# Altium footprint library LEDs.PcbLib: 54 footprints (part 2 of 4)
Each footprint in its own frame and in the unit in brackets; x right, y up, seen from the top. Pads: shape width x height; smd on the part's side, far side on the other; paste and mask are expansions set on the pad; w line width, h text height; cw(c..) or ccw(c..) is an arc to the next point about the centre after c.
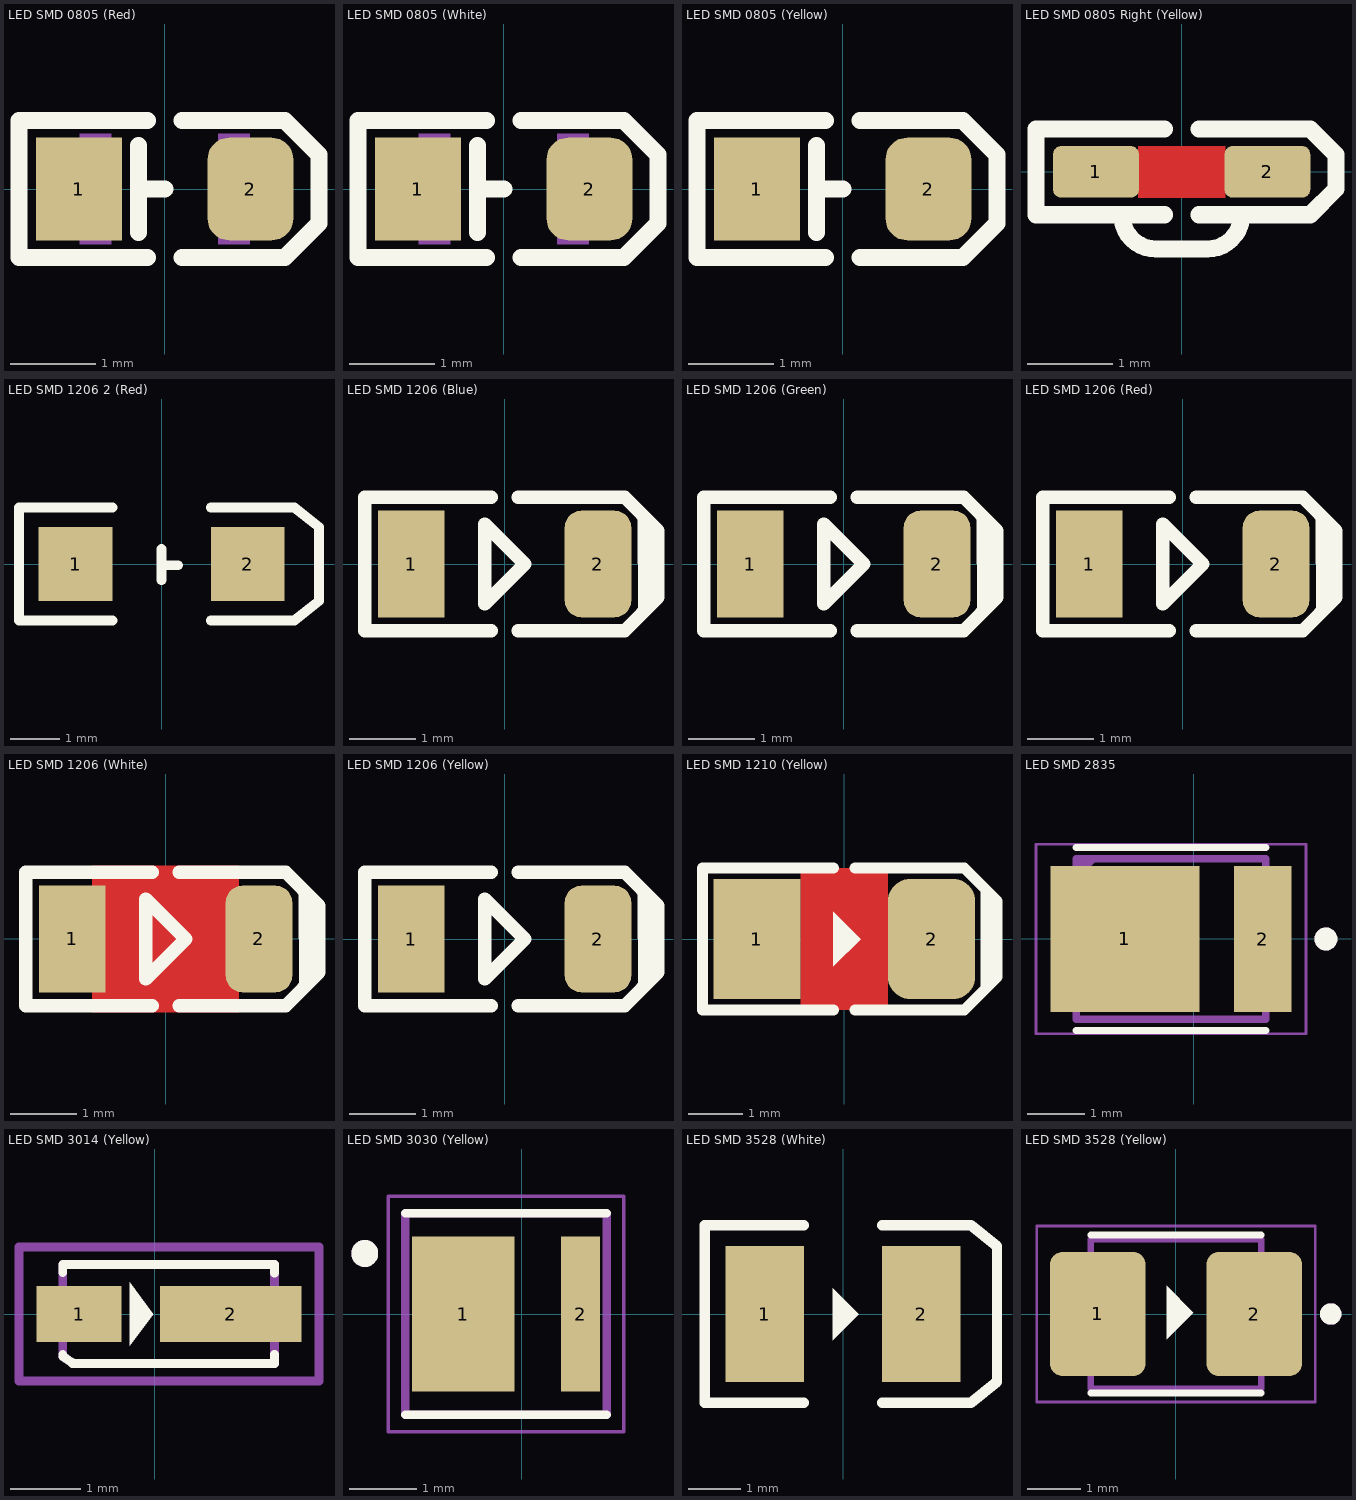
[diagram p1: the footprints below, top view; thin cyan lines are the x and y axes]

## LED SMD 0805 (Red) [mm]
pads (2):
  rect 1x1.2 smd mask+0.075: 1(-1,0)
  rrect50% 1x1.2 smd mask+0.075: 2(1,0)
Top Overlay:
  lines w0.2: -0.305,-0.508 -0.305,0.508 ; -0.305,0 0,0 ; -0.2,-0.8 -1.7,-0.8 -1.7,0.8 -0.2,0.8 ; 0.2,-0.8 1.4,-0.8 1.8,-0.4 1.8,0.4 1.4,0.8 0.2,0.8
Mechanical 13:
  rectangle: -0.848,-0.65 -0.619,0.65
  rectangle: -0.995,0.19 -0.842,0.65
  rectangle: -0.995,-0.65 -0.842,-0.191
  region: 0.848,0.65 0.619,0.65 0.619,-0.65 0.848,-0.65
  region: 0.995,0.65 0.842,0.65 0.842,0.191 0.995,0.191
  region: 0.995,-0.19 0.842,-0.19 0.842,-0.65 0.995,-0.65
  lines w0.102: -1,-0.191 ccw(c-1,0) -1,0.191 ; 1,-0.191 cw(c1,0) 1,0.191
3D body "User Library-Wurth Elektronik WL-SMCW 0805 (2012) LED Base (Separate Lens).step": height 0.64, standoff 0, extent -1,-0.625 1,0.625
3D body "User Library-Wurth Elektronik WL-SMCW 0805 (2012) LED Lens (Separate Body).step": height 0.7, standoff 0.3, extent -0.7,-0.625 0.7,0.625

## LED SMD 0805 (White) [mm]
pads (2):
  rect 1x1.2 smd mask+0.075: 1(-1,0)
  rrect50% 1x1.2 smd mask+0.075: 2(1,0)
Top Overlay:
  lines w0.2: -0.305,-0.508 -0.305,0.508 ; -0.305,0 0,0 ; -0.2,-0.8 -1.7,-0.8 -1.7,0.8 -0.2,0.8 ; 0.2,-0.8 1.4,-0.8 1.8,-0.4 1.8,0.4 1.4,0.8 0.2,0.8
Mechanical 13:
  region: 0.995,-0.19 0.842,-0.19 0.842,-0.65 0.995,-0.65
  region: 0.995,0.65 0.842,0.65 0.842,0.191 0.995,0.191
  region: 0.848,0.65 0.619,0.65 0.619,-0.65 0.848,-0.65
  rectangle: -0.995,-0.65 -0.842,-0.191
  rectangle: -0.995,0.19 -0.842,0.65
  rectangle: -0.848,-0.65 -0.619,0.65
  lines w0.102: -1,-0.191 ccw(c-1,0) -1,0.191 ; 1,-0.191 cw(c1,0) 1,0.191
3D body "User Library-Wurth Elektronik WL-SMCW 0805 (2012) LED Lens (Separate Body).step": height 0.7, standoff 0.3, extent -0.7,-0.625 0.7,0.625
3D body "User Library-Wurth Elektronik WL-SMCW 0805 (2012) LED Base (Separate Lens).step": height 0.64, standoff 0, extent -1,-0.625 1,0.625

## LED SMD 0805 (Yellow) [mm]
pads (2):
  rect 1x1.2 smd mask+0.075: 1(-1,0)
  rrect50% 1x1.2 smd mask+0.075: 2(1,0)
Top Overlay:
  lines w0.2: -0.305,-0.508 -0.305,0.508 ; -0.305,0 0,0 ; -0.2,-0.8 -1.7,-0.8 -1.7,0.8 -0.2,0.8 ; 0.2,-0.8 1.4,-0.8 1.8,-0.4 1.8,0.4 1.4,0.8 0.2,0.8
3D body "User Library-Wurth Elektronik WL-SMCW 0805 (2012) LED Base (Separate Lens).step": height 0.64, standoff 0, extent -1,-0.625 1,0.625
3D body "User Library-Wurth Elektronik WL-SMCW 0805 (2012) LED Lens (Separate Body).step": height 0.7, standoff 0.3, extent -0.7,-0.625 0.7,0.625

## LED SMD 0805 Right (Yellow) [mm]
pads (2):
  rrect30% 1x0.6 smd: 1(-1,0) 2(1,0)
Top Layer:
  pour cut-out: 0.508,-0.3 -0.508,-0.3 -0.508,0.3 0.508,0.3
Top Overlay:
  lines w0.2: -0.7,-0.5 ccw(c-0.3,-0.5) -0.3,-0.9 0.3,-0.9 ccw(c0.3,-0.5) 0.7,-0.5 ; -0.2,-0.5 -1.7,-0.5 -1.7,0.5 -0.2,0.5 ; 0.2,-0.5 1.5,-0.5 1.8,-0.2 1.8,0.2 1.5,0.5 0.2,0.5
3D body "LED_SIDELED-2.1x0.6x1.0 WHITE maxtol.STEP": height 0.7, standoff 0, extent -1.1,-0.8 1.1,0.3

## LED SMD 1206 2 (Red) [mm]
pads (2):
  rect 1.5x1.5 smd: 1(-1.75,0) 2(1.75,0)
Top Overlay:
  lines w0.2: -1,-1.15 -2.9,-1.15 -2.9,1.15 -1,1.15 ; 0,-0.33 0,0.305 ; 0,-0.025 0.33,-0.025 ; 1,-1.15 2.7,-1.15 3.2,-0.75 3.2,0.75 2.7,1.15 1,1.15
3D body "SW3dPS-LED_SMD_SML010L_Red.STEP": height 1.36, standoff 0.01, extent -1.65,-0.762 1.65,0.688

## LED SMD 1206 (Blue) [mm]
pads (2):
  rect 1x1.6 smd mask+0.075: 1(-1.4,0)
  rrect50% 1x1.6 smd mask+0.075: 2(1.4,0)
Top Overlay:
  region: 2,0.7 2,-0.7 2.3,-0.4 2.3,0.4
  lines w0.2: -0.2,-1 -2.1,-1 -2.1,1 -0.2,1 ; 0.2,-1 1.8,-1 2.3,-0.5 2.3,0.5 1.8,1 0.2,1 ; -0.3,-0.6 -0.3,0.6 0.3,0 -0.3,-0.6
3D body "User Library-Wurth Elektronik WL-SMCW 1206 (3216) LED Base (Separate Lens).step": height 0.62, standoff 0, extent -1.6,-0.8 1.6,0.8
3D body "User Library-Wurth Elektronik WL-SMCW 1206 (3216) LED Lens (Separate Body).step": height 0.68, standoff 0.28, extent -1,-0.8 1,0.8

## LED SMD 1206 (Green) [mm]
pads (2):
  rect 1x1.6 smd mask+0.075: 1(-1.4,0)
  rrect50% 1x1.6 smd mask+0.075: 2(1.4,0)
Top Overlay:
  region: 2,0.7 2,-0.7 2.3,-0.4 2.3,0.4
  lines w0.2: -0.2,-1 -2.1,-1 -2.1,1 -0.2,1 ; 0.2,-1 1.8,-1 2.3,-0.5 2.3,0.5 1.8,1 0.2,1 ; -0.3,-0.6 -0.3,0.6 0.3,0 -0.3,-0.6
3D body "User Library-Wurth Elektronik WL-SMCW 1206 (3216) LED Base (Separate Lens).step": height 0.62, standoff 0, extent -1.6,-0.8 1.6,0.8
3D body "User Library-Wurth Elektronik WL-SMCW 1206 (3216) LED Lens (Separate Body).step": height 0.68, standoff 0.28, extent -1,-0.8 1,0.8

## LED SMD 1206 (Red) [mm]
pads (2):
  rect 1x1.6 smd mask+0.075: 1(-1.4,0)
  rrect50% 1x1.6 smd mask+0.075: 2(1.4,0)
Top Overlay:
  region: 2,0.7 2,-0.7 2.3,-0.4 2.3,0.4
  lines w0.2: -0.2,-1 -2.1,-1 -2.1,1 -0.2,1 ; 0.2,-1 1.8,-1 2.3,-0.5 2.3,0.5 1.8,1 0.2,1 ; -0.3,-0.6 0.3,0 -0.3,0.6 -0.3,-0.6
3D body "User Library-Wurth Elektronik WL-SMCW 1206 (3216) LED Lens (Separate Body).step": height 0.68, standoff 0.28, extent -1,-0.8 1,0.8
3D body "User Library-Wurth Elektronik WL-SMCW 1206 (3216) LED Base (Separate Lens).step": height 0.62, standoff 0, extent -1.6,-0.8 1.6,0.8

## LED SMD 1206 (White) [mm]
pads (2):
  rect 1x1.6 smd mask+0.075: 1(-1.4,0)
  rrect50% 1x1.6 smd mask+0.075: 2(1.4,0)
Top Layer:
  pour cut-out: -1.1,1.1 -1.1,-1.1 1.1,-1.1 1.1,1.1
Top Overlay:
  region: 2,0.7 2,-0.7 2.3,-0.4 2.3,0.4
  lines w0.2: -0.2,-1 -2.1,-1 -2.1,1 -0.2,1 ; 0.2,-1 1.8,-1 2.3,-0.5 2.3,0.5 1.8,1 0.2,1 ; -0.3,-0.6 0.3,0 -0.3,0.6 -0.3,-0.6
3D body "User Library-Wurth Elektronik WL-SMCW 1206 (3216) LED Lens (Separate Body).step": height 0.68, standoff 0.28, extent -1,-0.8 1,0.8
3D body "User Library-Wurth Elektronik WL-SMCW 1206 (3216) LED Base (Separate Lens).step": height 0.62, standoff 0, extent -1.6,-0.8 1.6,0.8

## LED SMD 1206 (Yellow) [mm]
pads (2):
  rect 1x1.6 smd mask+0.075: 1(-1.4,0)
  rrect50% 1x1.6 smd mask+0.075: 2(1.4,0)
Top Overlay:
  region: 2,0.7 2,-0.7 2.3,-0.4 2.3,0.4
  lines w0.2: -0.2,-1 -2.1,-1 -2.1,1 -0.2,1 ; 0.2,-1 1.8,-1 2.3,-0.5 2.3,0.5 1.8,1 0.2,1 ; -0.3,-0.6 -0.3,0.6 0.3,0 -0.3,-0.6
3D body "User Library-Wurth Elektronik WL-SMCW 1206 (3216) LED Lens (Separate Body).step": height 0.68, standoff 0.28, extent -1,-0.8 1,0.8
3D body "User Library-Wurth Elektronik WL-SMCW 1206 (3216) LED Base (Separate Lens).step": height 0.62, standoff 0, extent -1.6,-0.8 1.6,0.8

## LED SMD 1210 (Yellow) [mm]
pads (2):
  rect 1.6x2.2 smd mask+0.075: 1(-1.6,0)
  rrect50% 1.6x2.2 smd mask+0.075: 2(1.6,0)
Top Layer:
  pour cut-out: -0.8,1.3 -0.8,-1.3 0.8,-1.3 0.8,1.3
Top Overlay:
  region: 2.5,1 2.5,-1 2.8,-0.7 2.8,0.7
  region: -0.199,0.496 -0.199,-0.504 0.301,-0.004
  lines w0.2: -0.2,-1.3 -2.6,-1.3 -2.6,1.3 -0.2,1.3 ; 0.2,-1.3 2.2,-1.3 2.8,-0.7 2.8,0.7 2.2,1.3 0.2,1.3
3D body "User Library-led_1210.step": height 1.1, standoff -0.05, extent -1.62,-1.35 1.62,1.35

## LED SMD 2835 [mm]
pads (2):
  rect 2.6x2.55 smd: 1(-1.2,0)
  rect 1x2.55 smd: 2(1.2,0)
Top Overlay:
  circle w0.2: c2.3,0 r0.1
  lines w0.127: -2.05,-1.595 1.25,-1.595 ; -2.05,1.595 1.25,1.595
Mechanical 13:
  circle w0.2: c2.3,0 r0.1
  lines w0.127: -2.05,1.1 -2.05,-1.4 1.25,-1.4 1.25,1.4 -1.75,1.4 ; -2.05,1.1 -2.05,1.2 ; -2.05,1.1 -1.75,1.4 ; -2.05,1.2 -2.05,1.4 -1.85,1.4 ; -2.05,1.2 -1.85,1.4 ; -1.85,1.4 -1.75,1.4
Mechanical 15:
  lines w0.05: -2.75,-1.65 1.95,-1.65 1.95,1.65 -2.75,1.65 -2.75,-1.65
3D body "step_temp.STEP": height 0.75, standoff 0, extent -2.15,-1.4 1.35,1.4

## LED SMD 3014 (Yellow) [mm]
pads (2):
  rect 1.2x0.8 smd: 1(-1.075,0)
  rect 2x0.8 smd: 2(1.075,0)
Top Overlay:
  region: -0.356,0.452 -0.356,-0.452 -0.025,0
  lines w0.127: -1.305,-0.6 -1.175,-0.69 ; -1.305,-0.58 -1.305,-0.57 ; -1.305,0.59 -1.305,0.7 1.695,0.7 1.695,0.58 ; -1.165,-0.7 -1.085,-0.7 ; -1.075,-0.7 1.695,-0.7 1.695,-0.57
Mechanical 13:
  lines w0.127: -1.305,0.7 -1.305,-0.6 -1.175,-0.69 ; 1.695,-0.7 1.695,0.7
Mechanical 15:
  lines w0.127: -1.925,-0.95 -1.925,0.95 2.325,0.95 2.325,-0.95 -1.925,-0.95
3D body "LED SMD 3014.step": height 1, standoff -0.01, extent -1.264,-0.642 1.893,0.758

## LED SMD 3030 (Yellow) [mm]
pads (2):
  rect 1.53x2.3 smd paste-2 mask+0: 1(-0.873,0)
  rect 0.58x2.3 smd paste-2 mask+0: 2(0.873,0)
Top Overlay:
  circle w0.2: c-2.338,0.9 r0.1
  lines w0.127: -1.737,-1.5 1.262,-1.5 ; -1.737,1.5 1.262,1.5
Top Paste:
  region: -0.158,-1.05 -1.488,-1.05 -1.488,1.05 -0.158,1.05
  region: 1.112,-1.1 0.633,-1.1 0.633,1.1 1.112,1.1
Top Solder:
  region: 1.162,-1.15 0.583,-1.15 0.583,1.15 1.162,1.15
  region: -0.108,-1.15 -1.637,-1.15 -1.637,1.15 -0.108,1.15
Mechanical 13:
  circle w0.2: c-2.338,0.9 r0.1
  lines w0.127: -1.737,-1.5 -1.737,1.5 1.262,1.5 1.262,-1.5 -1.737,-1.5
Mechanical 15:
  lines w0.05: -1.987,-1.75 -1.987,1.75 1.512,1.75 1.512,-1.75 -1.987,-1.75
3D body "LED SMD 3030.step": height 0.51, standoff 0, extent -1.762,-1.524 1.286,1.524

## LED SMD 3528 (White) [mm]
pads (2):
  rect 1.5x2.6 smd: 1(-1.5,0) 2(1.5,0)
Top Overlay:
  region: -0.199,0.496 -0.199,-0.504 0.301,-0.004
  lines w0.2: -0.75,-1.7 -2.65,-1.7 -2.65,1.7 -0.75,1.7 ; 0.75,-1.7 2.45,-1.7 2.95,-1.3 2.95,1.3 2.45,1.7 0.75,1.7
3D body "User Library-SFH320.STEP": height 2.1, standoff 0, extent -1.88,-1.5 1.88,1.5

## LED SMD 3528 (Yellow) [mm]
pads (2):
  rrect25% 1.79x2.32 smd: 1(-1.465,0) 2(1.465,0)
Top Overlay:
  circle w0.2: c2.9,0 r0.1
  region: -0.175,0.525 -0.175,-0.475 0.325,0.025
  lines w0.127: -1.6,-1.48 1.6,-1.48 ; -1.6,1.48 1.6,1.48
Mechanical 13:
  circle w0.2: c2.9,0 r0.1
  lines w0.127: -1.6,-1.4 -1.6,1.4 1.6,1.4 1.6,-1.4 -1.6,-1.4
Mechanical 15:
  lines w0.05: -2.61,-1.65 -2.61,1.65 2.61,1.65 2.61,-1.65 -2.61,-1.65
3D body "LED SMD 3528.step": height 1.9, standoff 0, extent -1.75,-1.4 1.75,1.4